# Altium footprint library PcbLib1.PcbLib: 58 footprints (part 4 of 4)
Each footprint in its own frame and in the unit in brackets; x right, y up, seen from the top. Pads: shape width x height; smd on the part's side, far side on the other; paste and mask are expansions set on the pad; w line width, h text height; cw(c..) or ccw(c..) is an arc to the next point about the centre after c.
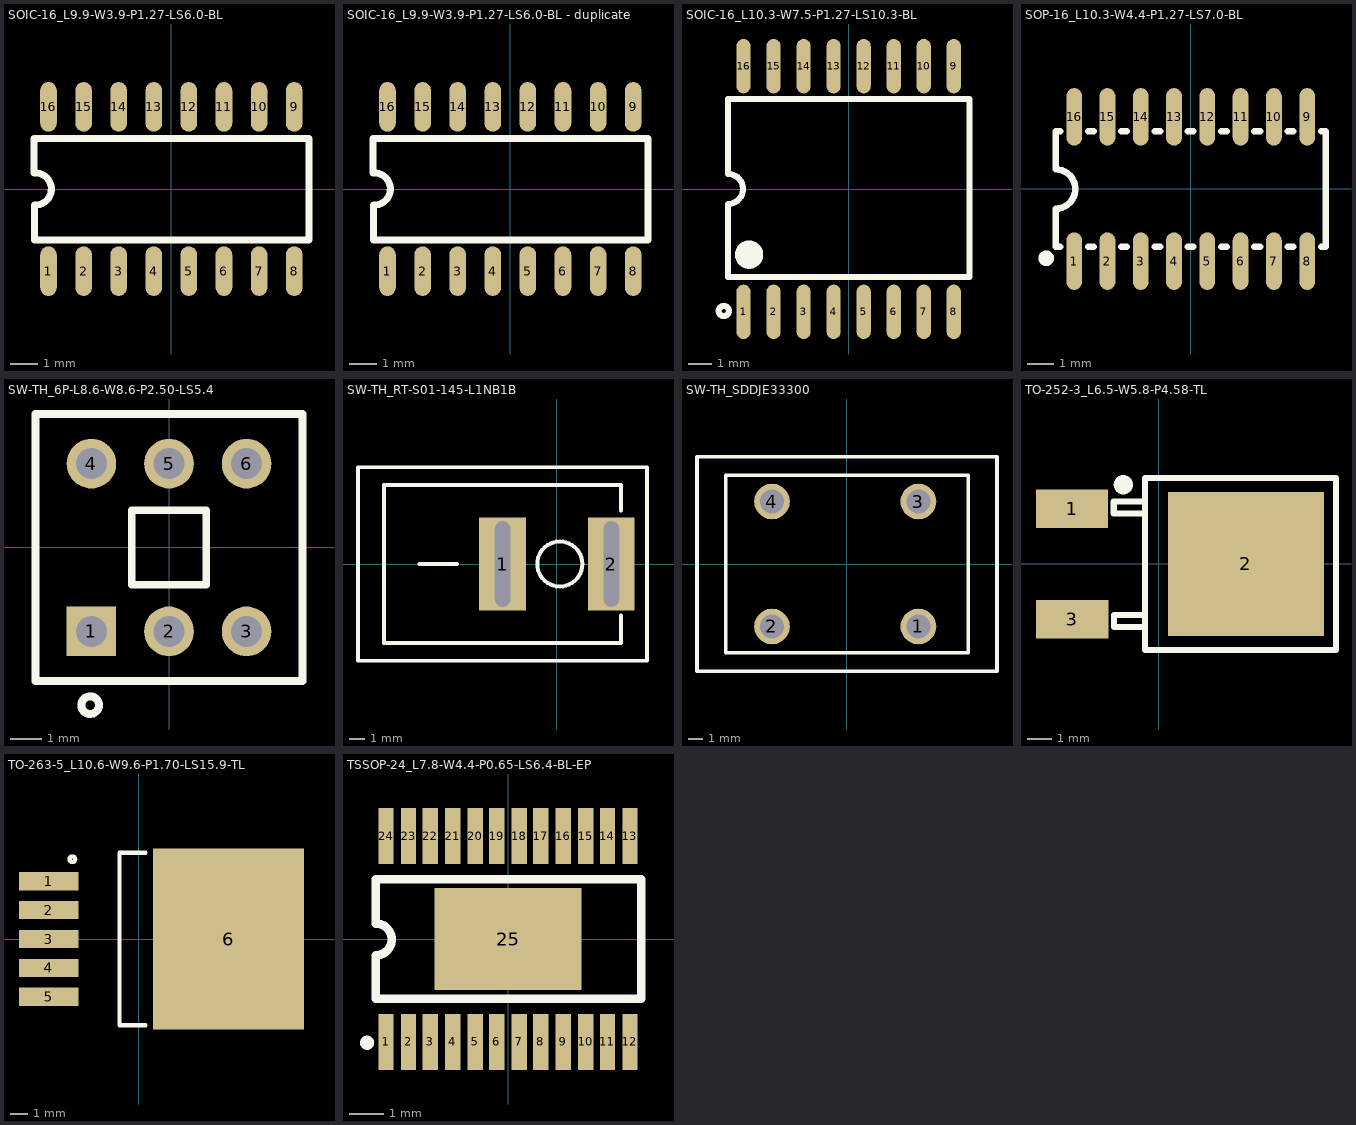
[diagram p3: the footprints below, top view; thin cyan lines are the x and y axes]

## SOIC-16_L9.9-W3.9-P1.27-LS6.0-BL [mm]
pads (16):
  oval 0.6x1.798 smd: 1(-4.445,-2.972) 2(-3.175,-2.972) 3(-1.905,-2.972) 4(-0.635,-2.972) 5(0.635,-2.972) 6(1.905,-2.972) 7(3.175,-2.972) 8(4.445,-2.972) 9(4.445,2.972) 10(3.175,2.972) 11(1.905,2.972) 12(0.635,2.972) 13(-0.635,2.972) 14(-1.905,2.972) 15(-3.175,2.972) 16(-4.445,2.972)
Top Overlay:
  lines w0.254: -4.976,0.584 -4.976,1.829 4.976,1.829 4.976,-1.854 -4.928,-1.854 ; -4.953,-1.854 -4.953,-0.584 ccw(c-4.928,0) -4.95,0.584

## SOIC-16_L9.9-W3.9-P1.27-LS6.0-BL - duplicate [mm]
pads (16):
  oval 0.6x1.798 smd: 1(-4.445,-2.972) 2(-3.175,-2.972) 3(-1.905,-2.972) 4(-0.635,-2.972) 5(0.635,-2.972) 6(1.905,-2.972) 7(3.175,-2.972) 8(4.445,-2.972) 9(4.445,2.972) 10(3.175,2.972) 11(1.905,2.972) 12(0.635,2.972) 13(-0.635,2.972) 14(-1.905,2.972) 15(-3.175,2.972) 16(-4.445,2.972)
Top Overlay:
  lines w0.254: -4.976,0.584 -4.976,1.829 4.976,1.829 4.976,-1.854 -4.928,-1.854 ; -4.953,-1.854 -4.953,-0.584 ccw(c-4.928,0) -4.95,0.584

## SOIC-16_L10.3-W7.5-P1.27-LS10.3-BL [mm]
pads (16):
  oval 0.6x2.298 smd: 1(-4.445,-5.194) 2(-3.175,-5.194) 3(-1.905,-5.194) 4(-0.635,-5.194) 5(0.635,-5.194) 6(1.905,-5.194) 7(3.175,-5.194) 8(4.445,-5.194) 9(4.445,5.194) 10(3.175,5.194) 11(1.905,5.194) 12(0.635,5.194) 13(-0.635,5.194) 14(-1.905,5.194) 15(-3.175,5.194) 16(-4.445,5.194)
Top Overlay:
  circle w0.254: c-5.28,-5.16 r0.215
  lines w0.254: -5.1,-3.721 -5.1,-0.635 ccw(c-5.1,0) -5.1,0.635 -5.1,3.797 5.1,3.797 5.1,-3.721 -5.1,-3.721
  lines w0.6: -4.216,-2.477 ccw(c-4.214,-2.776) -4.211,-2.477

## SOP-16_L10.3-W4.4-P1.27-LS7.0-BL [mm]
pads (16):
  oval 0.6x2.198 smd: 1(-4.445,-2.75) 2(-3.175,-2.75) 3(-1.905,-2.75) 4(-0.635,-2.75) 5(0.635,-2.75) 6(1.905,-2.75) 7(3.175,-2.75) 8(4.445,-2.75) 9(4.445,2.75) 10(3.175,2.75) 11(1.905,2.75) 12(0.635,2.75) 13(-0.635,2.75) 14(-1.905,2.75) 15(-3.175,2.75) 16(-4.445,2.75)
Top Overlay:
  lines w0.254: -4.976,-2.2 -5.15,-2.2 -5.15,-0.75 ccw(c-5.15,-0.001) -5.15,0.75 -5.15,2.2 -4.976,2.2 ; -3.914,-2.2 -3.706,-2.2 ; -3.914,2.2 -3.706,2.2 ; -2.644,-2.2 -2.436,-2.2 ; -2.644,2.2 -2.436,2.2 ; -1.374,-2.2 -1.166,-2.2 ; -1.374,2.2 -1.166,2.2 ; -0.104,-2.2 0.104,-2.2 ; -0.104,2.2 0.104,2.2 ; 1.166,-2.2 1.374,-2.2 ; 1.166,2.2 1.374,2.2 ; 2.436,-2.2 2.644,-2.2 ; 2.436,2.2 2.644,2.2 ; 3.706,-2.2 3.914,-2.2 ; 3.706,2.2 3.914,2.2 ; 4.976,-2.2 5.15,-2.2 5.15,2.2 4.976,2.2
  lines w0.3: -5.513,-2.492 ccw(c-5.512,-2.642) -5.51,-2.492

## SW-TH_6P-L8.6-W8.6-P2.50-LS5.4 [mm]
pads (6):
  rect 1.6x1.6 hole 1: 1(-2.5,-2.7)
  round 1.6 hole 1: 2(0,-2.7) 3(2.5,-2.7) 4(-2.5,2.7) 5(0,2.7) 6(2.5,2.7)
Top Overlay:
  circle w0.254: c-2.54,-5.08 r0.284
  lines w0.254: -4.3,-4.3 -4.3,4.3 4.3,4.3 4.3,-4.3 -4.3,-4.3 ; -1.2,-1.2 -1.2,1.2 1.2,1.2 1.2,-1.2 -1.2,-1.2

## SW-TH_RT-S01-145-L1NB1B [mm]
pads (2):
  rect 3x6 hole 1 slot 5.5 at 90 deg: 1(-3.5,0) 2(3.5,0)
Top Overlay:
  circle w0.254: c0.183,0 r1.448
  lines w0.254: -8.834,0 -6.421,0 ; 4.12,-3.302 4.12,-5.08 -11.12,-5.08 -11.12,5.08 4.12,5.08 4.12,3.429 ; -12.8,-6.223 5.8,-6.223 5.8,6.223 -12.8,6.223 -12.8,-6.223

## SW-TH_SDDJE33300 [mm]
pads (4):
  round 2.5 hole 1.7: 1(5,-4.375) 2(-5.25,-4.375) 3(5,4.375) 4(-5.25,4.375)
Top Overlay:
  lines w0.254: -8.5,-6.2 8.5,-6.2 8.5,6.2 -8.5,6.2 ; -8.499,-6.2 -8.499,6.2 ; 10.5,-7.5 -10.5,-7.5 -10.5,7.5 10.5,7.5 ; 10.5,-7.499 10.5,7.499

## TO-252-3_L6.5-W5.8-P4.58-TL [mil]
pads (3):
  rect 118.1x63 smd: 1(-142.4,90.53)
  rect 255.9x236.2 smd: 2(142.4,-0.03)
  rect 118.2x63 smd: 3(-142.15,-90.53)
Top Overlay:
  lines w10: -22.91,82.66 -74.09,82.66 -74.09,102.33 -22.91,102.33 ; -22.75,-103.28 -73.93,-103.28 -73.93,-83.58 -22.75,-83.58 ; -22.91,-140.7 -22.91,140.64 290.08,140.64 290.08,-140.7 -22.91,-140.7
  lines w15.75: -58.45,121.97 cw(c-58.4,129.85) -58.35,121.97

## TO-263-5_L10.6-W9.6-P1.70-LS15.9-TL [mm]
pads (6):
  rect 3.5x1.069 smd: 1(-5.3,3.404) 2(-5.3,1.702) 3(-5.3,0) 4(-5.3,-1.702) 5(-5.3,-3.404)
  rect 8.89x10.66 smd: 6(5.3,0)
Top Overlay:
  circle w0.254: c-3.908,4.699 r0.165
  lines w0.254: 0.41,-5.08 -1.126,-5.08 -1.126,5.08 0.41,5.08

## TSSOP-24_L7.8-W4.4-P0.65-LS6.4-BL-EP [mm]
pads (25):
  rect 0.45x1.65 smd: 1(-3.581,-3.023) 2(-2.921,-3.023) 3(-2.286,-3.023) 4(-1.626,-3.023) 5(-0.965,-3.023) 6(-0.33,-3.023) 7(0.33,-3.023) 8(0.965,-3.023) 9(1.626,-3.023) 10(2.286,-3.023) 11(2.921,-3.023) 12(3.581,-3.023) 13(3.581,3.023) 14(2.921,3.023) 15(2.286,3.023) 16(1.626,3.023) 17(0.965,3.023) 18(0.33,3.023) 19(-0.33,3.023) 20(-0.965,3.023) 21(-1.626,3.023) 22(-2.286,3.023) 23(-2.921,3.023) 24(-3.581,3.023)
  rect 4.32x3 smd: 25(0,0)
Top Overlay:
  circle w0.254: c-4.14,-3.048 r0.08
  lines w0.254: -3.889,-1.753 -3.081,-1.753 3.912,-1.753 ; -3.886,-1.753 -3.886,-0.483 ccw(c-3.886,-0.013) -3.886,0.457 ; -3.886,0.483 -3.886,1.753 3.914,1.753 ; 3.912,-1.75 3.912,1.753